# Altium footprint library PcbLib1.PcbLib: 1 footprints
Each footprint in its own frame and in the unit in brackets; x right, y up, seen from the top. Pads: shape width x height; smd on the part's side, far side on the other; paste and mask are expansions set on the pad; w line width, h text height; cw(c..) or ccw(c..) is an arc to the next point about the centre after c.
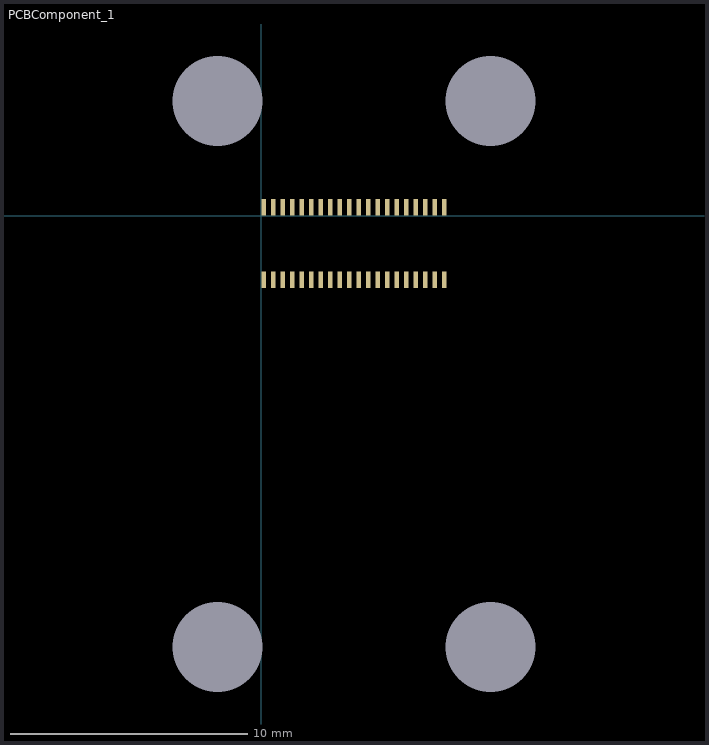
[diagram p0: the footprint, top view; thin cyan lines are the x and y axes]

## PCBComponent_1 [mm]
pads (44):
  rect 0.2x0.7 smd mask+0.07: 1(7.7,0.35) 2(7.7,-2.7) 3(7.3,0.35) 4(7.3,-2.7) 5(6.9,0.35) 6(6.9,-2.7) 7(6.5,0.35) 8(6.5,-2.7) 9(6.1,0.35) 10(6.1,-2.7) 11(5.7,0.35) 12(5.7,-2.7) 13(5.3,0.35) 14(5.3,-2.7) 15(4.9,0.35) 16(4.9,-2.7) 17(4.5,0.35) 18(4.5,-2.7) 19(4.1,0.35) 20(4.1,-2.7) 21(3.7,0.35) 22(3.7,-2.7) 23(3.3,0.35) 24(3.3,-2.7) 25(2.9,0.35) 26(2.9,-2.7) 27(2.5,0.35) 28(2.5,-2.7) 29(2.1,0.35) 30(2.1,-2.7) 31(1.7,0.35) 32(1.7,-2.7) 33(1.3,0.35) 34(1.3,-2.7) 35(0.9,0.35) 36(0.9,-2.7) 37(0.5,0.35) 38(0.5,-2.7) 39(0.1,0.35) 40(0.1,-2.7)
  round 0 / inner round 0 / far side round 6.2 hole 3.8: 42(9.65,4.83) 43(-1.85,4.83) 44(-1.85,-18.17) 45(9.65,-18.17)